# Altium schematic symbol library Schlib1.SchLib: 27 symbols
Pins are listed as number, name and electrical type; pins without a type are passive.

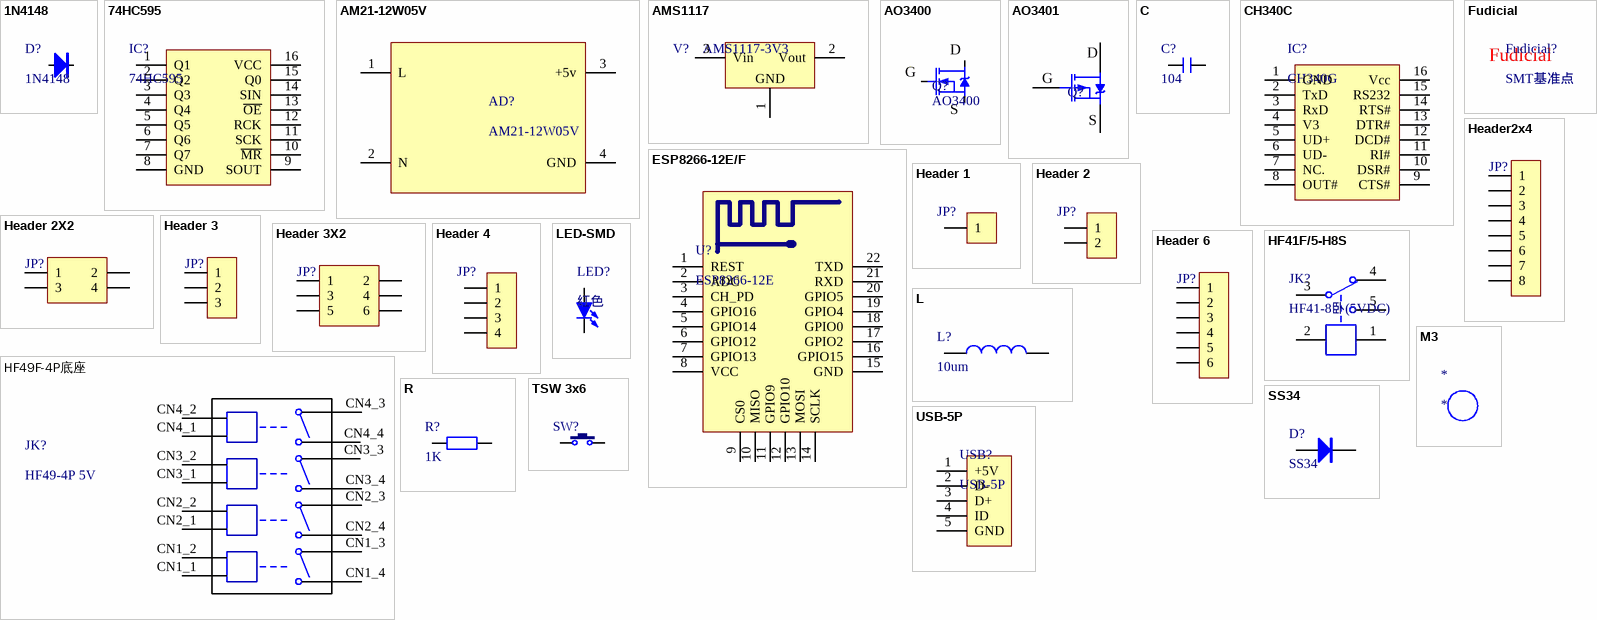
[diagram p0: symbols 1N4148 to USB-5P]

## 1N4148
designator D?
开关二极管; BOM名称: 肖特基二极管; 版权归属: 源创客; 属性: 40V/3A; 学习资源: www.ooocke.com
footprint SOD-123 (2.7x1.6X1.1mm（长宽高，不包括引脚）)
pins: 1 A, 2 K

## 74HC595
designator IC?
8位移位寄存器; 版权归属: 源创客; BOM名称: 8位移位寄存器; 学习资源: www.ooocke.com
footprint SOP16_M (10.3*6.2*1.8mm（长宽高）)
pins: 1 Q1, 2 Q2, 3 Q3, 4 Q4, 5 Q5, 6 Q6, 7 Q7, 8 GND, 9 SOUT, 10 ~{MR}, 11 SCK, 12 RCK, 13 ~{OE}, 14 SIN, 15 Q0, 16 VCC

## AM21-12W05V
designator AD?
亿佰特AM21-12W05V AC-DC降压模块
footprint AM21-xWxxV (亿佰特生产的AC-DC降压模块专用封装)
pins: 1 L, 2 N, 3 +5v, 4 GND

## AMS1117
designator V?, comment AMS1117-3V3
三端稳压芯片; BOM名称: 稳压芯片; 版权归属: 源创客; 学习资源: www.ooocke.com
footprint SOT223_N (6.4x7x1.6mm(长宽高))
pins: 1 GND, 2 Vout, 3 Vin

## AO3400
designator Q?
N沟场效应管; 版权归属: 源创客; BOM名称: N沟场效应管; 学习资源: www.ooocke.com
footprint SOT23
pins: 1 G, 2 D, 3 S

## AO3401
designator Q?  (value not drawn)
P沟道场效应管; 版权归属: 源创客; BOM名称: P沟道场效应管; 学习资源: www.ooocke.com
footprint SOT23
pins: 1 G, 2 D, 3 S

## C
designator C?, comment 104
无极性贴片电容; 版权归属: 源创客; BOM名称: 无极性贴片电容; 学习资源: www.ooocke.com
footprint 0201R
footprint 0402R
footprint 0603R
footprint 0805R
footprint 1206R
pins: 1, 2

## CH340C
designator IC?, comment CH340G
串口转USB; 版权归属: 源创客; BOM名称: 串口转USB; 学习资源: www.ooocke.com
footprint SOP16_M (10.3*6.2*1.8mm（长宽高）)
pins: 1 GND, 2 TxD, 3 RxD, 4 V3, 5 UD+, 6 UD-, 7 NC., 8 OUT#, 9 CTS#, 10 DSR#, 11 RI#, 12 DCD#, 13 DTR#, 14 RTS#, 15 RS232, 16 Vcc

## ESP8266-12E/F
designator U?, comment ESP8266-12E
串口 WIFI模块，ESP-12E; BOM名称: WIFI模块; 版权归属: 源创客; 学习资源: www.ooocke.com
footprint ESP_12E/F (ESP-12 Wi-Fi Module by AI-Thinker)
pins: 1 REST, 2 ADC, 3 CH_PD, 4 GPIO16, 5 GPIO14, 6 GPIO12, 7 GPIO13, 8 VCC, 9 CS0, 10 MISO, 11 GPIO9, 12 GPIO10, 13 MOSI, 14 SCLK, 15 GND, 16 GPIO15, 17 GPIO2, 18 GPIO0, 19 GPIO4, 20 GPIO5, 21 RXD, 22 TXD

## Fudicial
designator Fudicial?, comment SMT基准点
footprint Fudicials (SMT基准点)

## Header2x4
designator JP?, comment HDR-2X4  (value not drawn)
8P接插件; 版权归属: 源创客; BOM名称: 8P接插件; 学习资源: www.ooocke.com
footprint 1.27 2x4Pin (烧录接口)
pins: 1, 2, 3, 4, 5, 6, 7, 8

## Header 1
designator JP?, comment HDR-1X1  (value not drawn)
1P接插件; 版权归属: 源创客; BOM名称: 1P接插件; 学习资源: www.ooocke.com
footprint HDR-1X1 (排针，1脚)
footprint HDR-1X1_Y (圆孔排母，1脚)
footprint HDR-1X1_H (弯脚排针，1脚)
footprint HDR-1X1_M (排母，1脚)
footprint HDR2.54 S-W-1P (1P卧式贴片排针2.54)
footprint HDR2.54 S-W-1P_M (1P卧式贴片排母2.54)
pins: 1

## Header 2
designator JP?, comment HDR-1X2  (value not drawn)
2P接插件; 版权归属: 源创客; BOM名称: 2P接插件; 学习资源: www.ooocke.com
footprint KF301-5.0-2P (可拼接端子/6A)
pins: 1, 2

## Header 2X2
designator JP?, comment Header2X2  (value not drawn)
2*2P接插件; 版权归属: 源创客; BOM名称: 2*2P接插件; 学习资源: www.ooocke.com
footprint HDR-2X2 (双排排针，2x2脚)
footprint HDR-2X2_H (双排弯脚排针，2x2脚)
footprint PHB2.0-2x2 (长：6mm，宽：7.3mm，高：7.8mm)
footprint PHD2.0-2x2P (4脚，长：6mm，宽：5mm，高：6.5mm)
footprint HDR2.54 2x2-M-SMD (脚距：2.54mm，贴片双排母)
pins: 1, 2, 3, 4

## Header 3
designator JP?, comment HDR-1X3  (value not drawn)
3P接插件; 版权归属: 源创客; BOM名称: 3P接插件; 学习资源: www.ooocke.com
footprint HDR-1X3 (排针，3脚)
footprint HDR-1X3_M (排母，3脚)
footprint XH2.54-3P (接插件，3P)
footprint VH3.96-3P (接插件，25V/5A)
footprint XH2.54-3P_H (接插件，3P)
footprint HDR-1X3_H (弯脚排针，3脚)
footprint KF2510-3P (接插件/2A)
footprint HDR-1X3_Y (圆孔排母，3脚)
footprint VH3.96-3P_H (接插件，25V/5A)
footprint KF301-3P (可拼接端子/6A)
footprint KF2EDGK5.0-3P (直列插拔式端子)
footprint PH2.0 D-L-3P (接插件/1A)
footprint PH2.0 D-W-3P (接插件/1A)
footprint KF2EDGK5.0-3P_H (弯角插拔式端子)
footprint KF7620-3P (22.8*12*12mm(长宽高))
footprint KF350-3P (可拼接端子/10A)
footprint KF128-3.81-3P (螺钉式接线端子，脚距3.81mm)
footprint KF128-5.08-3P (螺钉式接线端子，脚距5.08mm)
footprint PH2.0 S-W-3P (长：10mm，宽：7.6mm，高：5.5mm)
footprint KF2EDGK5.08-3P (直列插拔式端子)
footprint KF2EDGK5.08-3P_H (弯角插拔式端子)
footprint HDR2.54 S-W-3P (3P卧式贴片排针2.54)
footprint HDR2.54 S-W-3P_M (3P卧式贴片排母2.54)
footprint HDR2.54-M-LI-3P (排母，3脚)
pins: 1, 2, 3

## Header 3X2
designator JP?, comment Header3X2  (value not drawn)
3*2P接插件; 版权归属: 源创客; BOM名称: 3*2P接插件; 学习资源: www.ooocke.com
footprint HDR-3X2 (双排弯脚排针，3x2脚)
footprint IDC2.54-6P (6P简易牛角座)
footprint HDR-3X2_H (双排弯脚排针，3x2脚)
footprint PHB2.0-2x3 (长：8mm，宽：7.3mm，高：7.8mm)
footprint PHD2.0-2x3P (6脚，长：8mm，宽：5mm，高：6.5mm)
footprint HDR2.54 2x3-M-SMD (脚距：2.54mm，贴片双排母)
pins: 1, 2, 3, 4, 5, 6

## Header 4
designator JP?, comment HDR-1X4  (value not drawn)
4P接插件; 版权归属: 源创客; BOM名称: 4P接插件; 学习资源: www.ooocke.com
footprint HDR-1X4 (排针，4脚)
footprint HDR-1X4_M (排母，4脚)
footprint XH2.54-4P (接插件，4P)
footprint KF2510-4P (接插件/2A)
footprint VH3.96-4P_H (接插件，25V/5A)
footprint PH2.0 D-L-4P (接插件/1A)
footprint HDR-1X4_H (弯脚排针，4脚)
footprint HDR-1X4_Y (圆孔排母，4脚)
footprint XH2.54-4P_H (接插件，4P)
footprint PH2.0 D-W-4P (接插件/1A)
footprint KF301-5.0-4P (可拼接端子/6A)
footprint KF2EDGK5.0-4P (直列插拔式端子)
footprint KF2EDGK5.0-4P_H (弯角插拔式端子)
footprint KF7620-4P (30.5*12*12mm(长宽高))
footprint KF350-4P (可拼接端子/10A)
footprint KF128-3.81-4P (螺钉式接线端子，脚距3.81mm)
footprint KF128-5.08-4P (螺钉式接线端子，脚距5.08mm)
footprint VH3.96-4P (接插件，25V/5A)
footprint PH2.0 S-W-4P (长：12mm，宽：7.6mm，高：5.5mm)
footprint KF2EDGK5.08-4P (直列插拔式端子)
footprint KF2EDGK5.08-4P_H (弯角插拔式端子)
footprint HDR2.54 S-W-4P (4P卧式贴片排针2.54)
footprint HDR2.54 S-W-4P_M (4P卧式贴片排母2.54)
pins: 1, 2, 3, 4

## Header 6
designator JP?, comment HDR-1X6  (value not drawn)
6P接插件; 版权归属: 源创客; BOM名称: 6P接插件; 学习资源: www.ooocke.com
footprint HDR-1X6 (排针，6脚)
footprint HDR-1X6_M (排母，6脚)
footprint XH2.54-6P (接插件，6P)
footprint VH3.96-6P_H (接插件，25V/5A)
footprint KF2510-6P (接插件/2A)
footprint XH2.54-6P_H (接插件，6P)
footprint HDR-1X6_Y (圆孔排母，6脚)
footprint HDR-1X6_H (弯脚排针，6脚)
footprint VH3.96-6P (接插件，25V/5A)
footprint KF301-6P (可拼接端子/6A)
footprint KF2EDGK5.0-6P (直列插拔式端子)
footprint PH2.0 D-L-6P (接插件/1A)
footprint PH2.0 D-W-6P (接插件/1A)
footprint KF2EDGK5.0-6P_H (弯角插拔式端子)
footprint KF7620-6P (45.7*12*12mm(长宽高))
footprint KF350-6P (可拼接端子/10A)
footprint KF128-5.08-6P (螺钉式接线端子，脚距5.08mm)
footprint KF128-3.81-6P (螺钉式接线端子，脚距3.81mm)
footprint PH2.0 S-W-6P (长：16mm，宽：7.6mm，高：5.5mm)
footprint KF2EDGK5.08-6P (直列插拔式端子)
footprint KF2EDGK5.08-6P_H (弯角插拔式端子)
footprint HDR2.54 S-W-6P (6P卧式贴片排针2.54)
footprint HDR2.54 S-W-6P_M (6P卧式贴片排母2.54)
pins: 1, 2, 3, 4, 5, 6

## HF41F/5-H8S
designator JK?, comment HF41-8卧(5VDC)
5V单路双控; BOM名称: 5V继电器; 版权归属: 源创客; 学习资源: www.ooocke.com
footprint HF41-Z8S (卧式继电器(28*15*5,含引脚厚0.2+0.3))
footprint HF41-ZS (立式继电器(28*15*5))
footprint SRD-C_B (单刀双投)
pins: 1, 2, 3, 4, 5

## HF49F-4P底座
designator JK?, comment HF49-4P 5V
HF49F-4P底座(兼容1H11/1H12); BOM名称: 单路常开继电器; 版权归属: 源创客; 学习资源: www.ooocke.com
footprint HF49F-XXXX-1H11(1H12)-4P焊座 (用于HF49F-XXXX-1H11(1H12)的焊座，兼容引出脚5.08mm和7.62mm)
pins: CN1_1 1, CN1_2 2, CN1_3 3, CN1_4 4, CN2_1 1, CN2_2 1, CN2_3 3, CN2_4 3, CN3_1 3, CN3_2 3, CN3_3 3, CN3_4 4, CN4_1 3, CN4_2 3, CN4_3 3, CN4_4 4

## L
designator L?, comment 10um
小功率贴片电感; 版权归属: 源创客; BOM名称: 小功率贴片电感; 学习资源: www.ooocke.com
footprint L 0402 (小功率贴片电感)
footprint L 0603 (小功率贴片电感)
footprint L 0805 (小功率贴片电感)
footprint L 1206 (小功率贴片电感)
footprint L 1210 (小功率贴片电感)
footprint L 1806 (小功率贴片电感)
footprint L 1812 (小功率贴片电感)
pins: 1, 2

## LED-SMD
designator LED?, comment 红色
贴片LED; 版权归属: 源创客; BOM名称: 贴片LED; 学习资源: www.ooocke.com
footprint LED 0603W (白色0603LED)
footprint LED 0603R (红色0603LED)
footprint LED 0603B (蓝色0603LED)
footprint LED 0603G (绿色0603LED)
footprint LED 0603Y (黄色0603LED)
footprint LED 0805G (绿色0805LED)
footprint LED 0805R (红色0805LED)
footprint LED 0805B (蓝色0805LED)
footprint LED 0805Y (黄色0805LED)
footprint LED 3528-2Pin (2脚，3528LED)
footprint LED 1206G (绿色1206LED)
footprint LED 5730-V (紫色5730LED)
footprint LED 1206Y (黄色1206LED)
footprint LED 0805W (白色0805LED)
footprint LED 1206B (蓝色1206LED)
footprint LED 1206W (白色1206LED)
footprint LED 1206R (红色1206LED)
pins: 1 A, 2 K

## M3
designator *  (mechanical)
铜柱孔; 版权归属: 源创客; BOM名称: 铜柱孔; 学习资源: www.ooocke.com
footprint M3 125X300 (M3螺丝孔，孔125Mil，焊盘300Mil)

## R
designator R?, comment 1K
贴片电阻; 版权归属: 源创客; BOM名称: 贴片电阻; 学习资源: www.ooocke.com
footprint 0201R
footprint 0402R
footprint 0603R
footprint 0805R
footprint 1206R
pins: 1, 2

## SS34
designator D?
肖特基二极管; 版权归属: 源创客; 属性: 40V/3A; BOM名称: 肖特基二极管; 学习资源: www.ooocke.com
footprint SMA (4.5x2.6*2.2mm（长宽高，不包括引脚）)
pins: 1 A, 2 K

## TSW 3x6
designator SW?, comment 3x6x5  (value not drawn)
3x6轻触开关; 版权归属: 源创客; BOM名称: 3x6轻触开关; 学习资源: www.ooocke.com
footprint TSW SMD-3*6*2.5 (3*6*2.5mm)
footprint TSW DIP-3*6*5_V (侧按轻触开关 3*6*5mm)
footprint TSW DIP-3*6*4.3 (3*6*4.3mm)
footprint TSW DIP-3*6*4.3_V (侧按轻触开关 3*6*4.3mm)
footprint TSW DIP-3*6*5 (3*6*5mm)
footprint TSW SMD-3*6*4.3 (3*6*4.3mm)
footprint TSW SMD-3*6*5 (3*6*5mm)
footprint TSW 3*6*4.3-S-W (侧立贴片3*6*4.3)
pins: 1, 2

## USB-5P
designator USB?
微型USB母座; 版权归属: 源创客; BOM名称: 微型USB母座; 学习资源: www.ooocke.com
footprint USB-MICRO_D (micro型USB ，5.9*8.2*2.5mm)
footprint USB-MICRO_E (micro型USB ，5.9*8.2*2.5mm)
pins: 1 +5V, 2 D-, 3 D+, 4 ID, 5 GND